# EAGLE library part WATER_SENSOR_PCB (library maartens-lib)
Watering sensor pcb
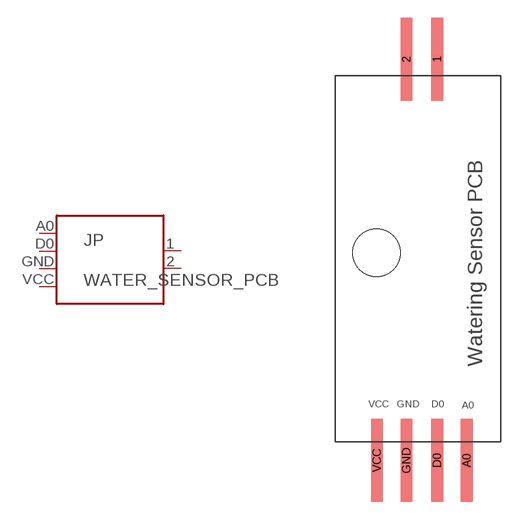
[diagram p0: symbol with the pads of WATER_SENSOR_PCB; footprint WATER_SENSOR_PCB]

Designator prefix JP

## WATER_SENSOR_PCB  [WATER_SENSOR_PCB]
1  1
2  2
A0  A0  pas
D0  D0  pas
GND  GND  pas
VCC  VCC  pas

## Footprint WATER_SENSOR_PCB (pad centres in mm)
Watering sensor pcb
smd 1 x 7: 1 8.63,32.395; 2 6.03,32.395; A0 11.13,-1.575; D0 8.63,-1.575; GND 6.03,-1.575; VCC 3.53,-1.575
hole 4 at 3.5,16